# EAGLE library part DM3BT-DSF-PEJS (library connector)
10 (8 + 2) Position Card Connector Secure Digital - microSD™ Surface Mount, Right Angle Gold Check prices <https://pricing.snapeda.com/parts/DM3BT-DSF-PEJS/Hirose%20Connector/view-part?ref=eda>
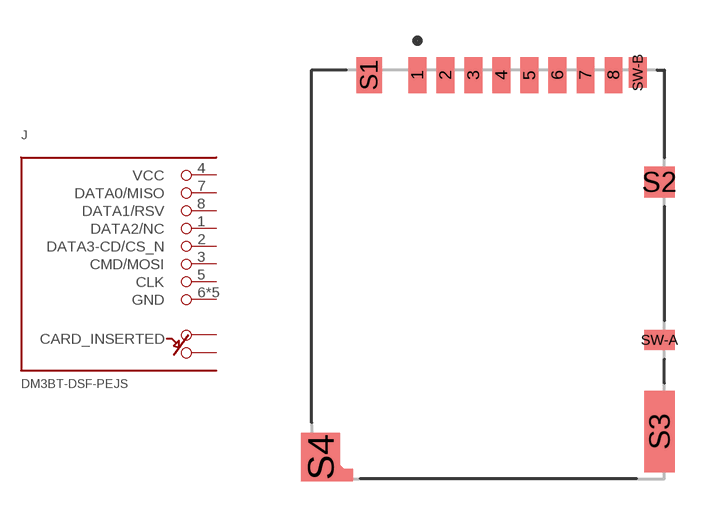
[diagram p9: symbol with the pads of HRS_DM3BT-DSF-PEJS; footprint HRS_DM3BT-DSF-PEJS]

Designator prefix J

## DM3BT-DSF-PEJS (DIGIKEY: HR1942TR-ND; MANUFACTURER: Hirose Connector; MPN: DM3BT-DSF-PEJS)  [HRS_DM3BT-DSF-PEJS]
1  DATA2/NC
2  DATA3-CD/CS_N
3  CMD/MOSI
4  VCC
5  CLK
6  GND
7  DATA0/MISO
8  DATA1/RSV
S1  GND
S2  GND
S3  GND
S4  GND
SW-A  A
SW-B  B

## Footprint HRS_DM3BT-DSF-PEJS (pad centres in mm)
smd 0.7 x 1.4: 1 -2.775,0.7; 2 -1.675,0.7; 3 -0.575,0.7; 4 0.525,0.7; 5 1.625,0.7; 6 2.725,0.7; 7 3.825,0.7; 8 4.925,0.7
smd 1 x 1.4: S1 -4.675,0.7
smd 1.2 x 1.2: S2 6.725,-3.5
smd 1.2 x 3.2: S3 6.725,-13.3
smd 1.5 x 1.9: S4 -6.575,-14.3
smd 1.2 x 0.8: SW-A 6.725,-9.7
smd 0.7 x 1.2: SW-B 5.875,0.8